# EAGLE library part MAX17205G (library U-Maxim-MAX17205-Fuel_Gauge)
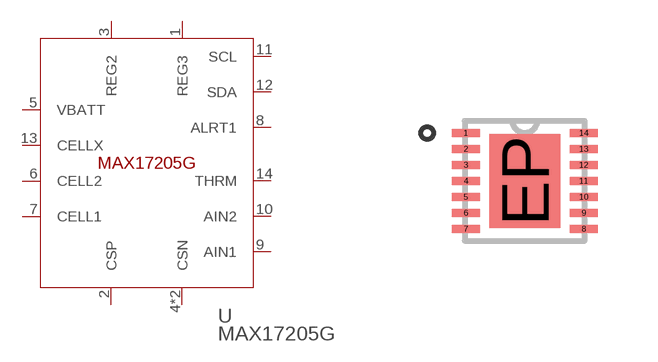
[diagram p0: symbol with the pads of 21-0137I_T1433-2; footprint 21-0137I_T1433-2]

Designator prefix U

## MAX17205G  [21-0137I_T1433-2]
1  REG3  pwr
2  CSP  pas
3  REG2  pwr
4  CSN  pas
5  VBATT  pwr
6  CELL2  pas
7  CELL1  pas
8  ALRT1  out
9  AIN1  in
10  AIN2  in
11  SCL  in
12  SDA
13  CELLX  pas
14  THRM  pas
EP  CSN  pas

## Footprint 21-0137I_T1433-2 (pad centres in mm)
smd 0.7 x 0.2: 1 -1.475,1.2; 2 -1.475,0.8; 3 -1.475,0.4; 4 -1.475,0; 5 -1.475,-0.4; 6 -1.475,-0.8; 7 -1.475,-1.2; 8 1.475,-1.2; 9 1.475,-0.8; 10 1.475,-0.4; 11 1.475,0; 12 1.475,0.4; 13 1.475,0.8; 14 1.475,1.2
smd 1.78 x 2.35: EP 0,0